# Altium footprint library TEMD5120X01.PcbLib: 1 footprints
Each footprint in its own frame and in the unit in brackets; x right, y up, seen from the top. Pads: shape width x height; smd on the part's side, far side on the other; paste and mask are expansions set on the pad; w line width, h text height; cw(c..) or ccw(c..) is an arc to the next point about the centre after c.
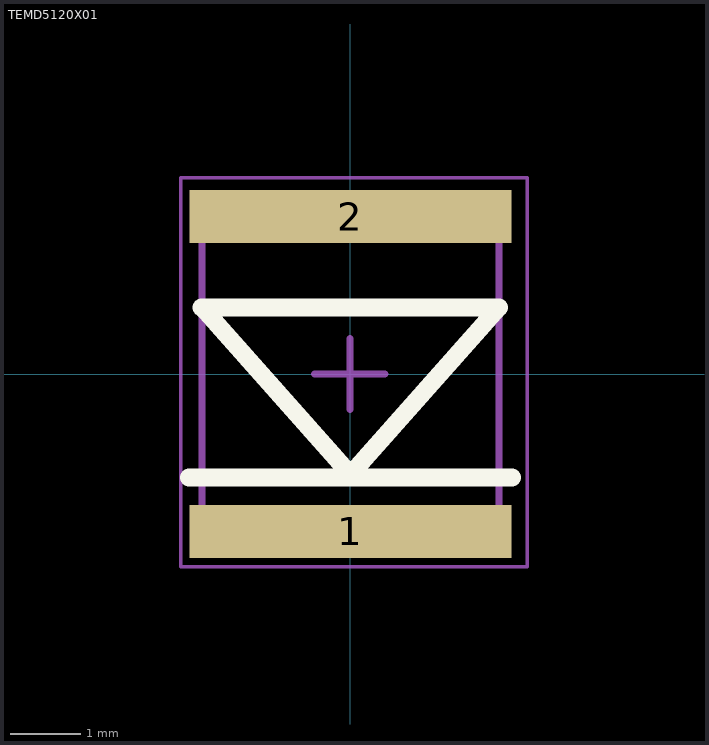
[diagram p0: the footprint, top view; thin cyan lines are the x and y axes]

## TEMD5120X01 [mm]
height 1.1
pads (2):
  rect 4.55x0.75 smd: 1(0,-2.225) 2(0,2.225)
Top Overlay:
  lines w0.254: -2.286,-1.463 2.286,-1.463 ; -2.108,0.94 2.098,0.94 -0.019,-1.444 ; -2.098,0.94 0.019,-1.444
Mechanical 13:
  lines w0.1: -2.1,-2.525 2.1,-2.525 2.1,2.489 -2.1,2.489 -2.1,-2.525
Mechanical 15:
  lines w0.05: -2.4,-2.725 -2.4,2.775 2.5,2.775 2.5,-2.725 -2.4,-2.725
  lines w0.1: -0.509,-0.001 0.491,-0.001 ; -0.009,-0.501 -0.009,0.499
Mechanical 17:
  text "'.Designator'" at -1.753,-0.102 h0.3
3D body: height 0.25, standoff 0, extent -5.334,-0.701 -5.334,-0.701
3D body: height 0.25, standoff 0, extent -5.969,0.315 -5.969,0.315
3D body: height 1.12, standoff 0.1, extent -2.1,-2.525 2.1,2.475